# EAGLE library part SN65HVD3082E (library PCB_KioskMB_r3.3-05)
RS-422/485 TRX 1RX 1TX
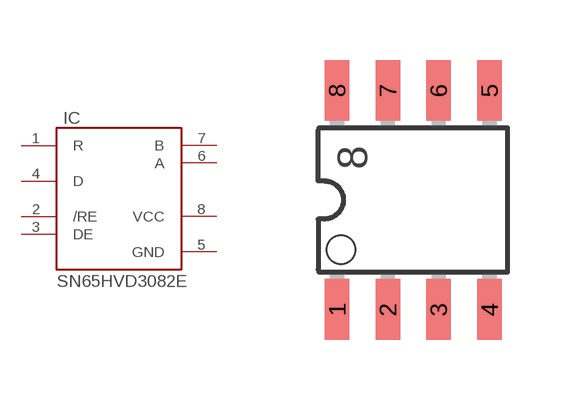
[diagram p26: symbol with the pads of SO08; footprint SO08]

Designator prefix IC

## SN65HVD3082ED  [SO08]
1  R  out
2  /RE  in
3  DE  in
4  D  in
5  GND  pwr
6  A
7  B
8  VCC  pwr

## Footprint SO08 (pad centres in mm)
SO 8 package TI=D (R-PDSO-G)
smd 0.61 x 1.524: 1 -1.905,-2.743; 2 -0.635,-2.743; 3 0.635,-2.743; 4 1.905,-2.743; 5 1.905,2.743; 6 0.635,2.743; 7 -0.635,2.743; 8 -1.905,2.743